# EAGLE library part TPS2051B (library eagle-book)
Single Current-Limited Power-Distribution Switch
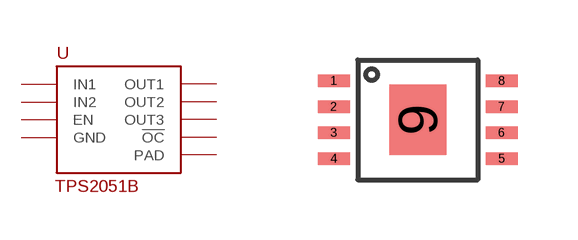
[diagram p17: symbol with the pads of S-PDSO-G8; footprint S-PDSO-G8]

Designator prefix -

## TPS2051B  [S-PDSO-G8]
1  GND  pwr
2  IN1  in
3  IN2  in
4  EN
5  !OC
6  OUT3  out
7  OUT2  out
8  OUT1  out
9  PAD

## Footprint S-PDSO-G8 (pad centres in mm)
8-pin PowerPad plastic small-outline package
smd 0.8 x 0.315: 1 -2.1,0.975; 2 -2.1,0.325; 3 -2.1,-0.325; 4 -2.1,-0.975; 5 2.1,-0.975; 6 2.1,-0.325; 7 2.1,0.325; 8 2.1,0.975
smd 1.425 x 1.76: 9 0,0